# EAGLE library part STECKER_AMPHENOL_35-PIN_1.1 (library k-data Mechanik)
Amphenol Stecker 35 pol. für Motronik (1.1)
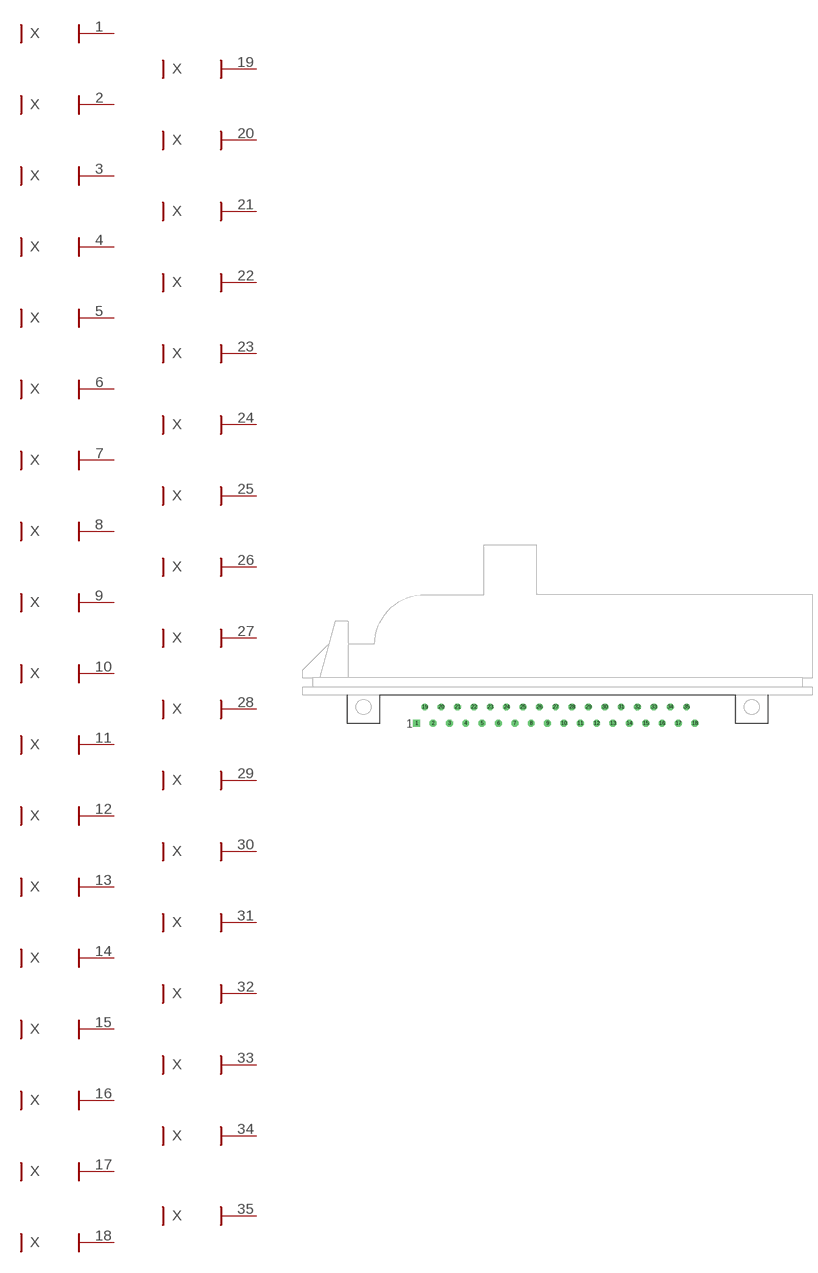
[diagram p8: symbol with the pads of STECKER_AMPHENOL_35-PIN_1.1; footprint STECKER_AMPHENOL_35-PIN_1.1]

Designator prefix X; gates 1=CONNECTOR 2=CONNECTOR 3=CONNECTOR 4=CONNECTOR 5=CONNECTOR 6=CONNECTOR 7=CONNECTOR 8=CONNECTOR 9=CONNECTOR 10=CONNECTOR 11=CONNECTOR 12=CONNECTOR 13=CONNECTOR 14=CONNECTOR 15=CONNECTOR 16=CONNECTOR 17=CONNECTOR 18=CONNECTOR 19=CONNECTOR 20=CONNECTOR 21=CONNECTOR 22=CONNECTOR 23=CONNECTOR 24=CONNECTOR 25=CONNECTOR 26=CONNECTOR 27=CONNECTOR 28=CONNECTOR 29=CONNECTOR 30=CONNECTOR 31=CONNECTOR 32=CONNECTOR 33=CONNECTOR 34=CONNECTOR 35=CONNECTOR

## STECKER_AMPHENOL_35-PIN_1.1  [STECKER_AMPHENOL_35-PIN_1.1]
1  1:1
2  2:1
3  3:1
4  4:1
5  5:1
6  6:1
7  7:1
8  8:1
9  9:1
10  10:1
11  11:1
12  12:1
13  13:1
14  14:1
15  15:1
16  16:1
17  17:1
18  18:1
19  19:1
20  20:1
21  21:1
22  22:1
23  23:1
24  24:1
25  25:1
26  26:1
27  27:1
28  28:1
29  29:1
30  30:1
31  31:1
32  32:1
33  33:1
34  34:1
35  35:1

## Footprint STECKER_AMPHENOL_35-PIN_1.1 (pad centres in mm)
Amphenol Stecker 35 pol. (1.1)
drill 1.4 pad 2 square: 1 -43.1,-13.5
drill 1.4 pad 2 octagon: 2 -38.1,-13.5; 3 -33.1,-13.5; 4 -28.1,-13.5; 5 -23.1,-13.5; 6 -18.1,-13.5; 7 -13.1,-13.5; 8 -8.1,-13.5; 9 -3.1,-13.5; 10 1.9,-13.5; 11 6.9,-13.5; 12 11.9,-13.5; 13 16.9,-13.5; 14 21.9,-13.5; 15 26.9,-13.5; 16 31.9,-13.5; 17 36.9,-13.5; 18 41.9,-13.5; 19 -40.6,-8.5; 20 -35.6,-8.5; 21 -30.6,-8.5; 22 -25.6,-8.5; 23 -20.6,-8.5; 24 -15.6,-8.5; 25 -10.6,-8.5; 26 -5.6,-8.5; 27 -0.6,-8.5; 28 4.4,-8.5; 29 9.4,-8.5; 30 14.4,-8.5; 31 19.4,-8.5; 32 24.4,-8.5; 33 29.4,-8.5; 34 34.4,-8.5; 35 39.4,-8.5